# EAGLE library part ARDUNIO-NANO-BRD (library custom_components)
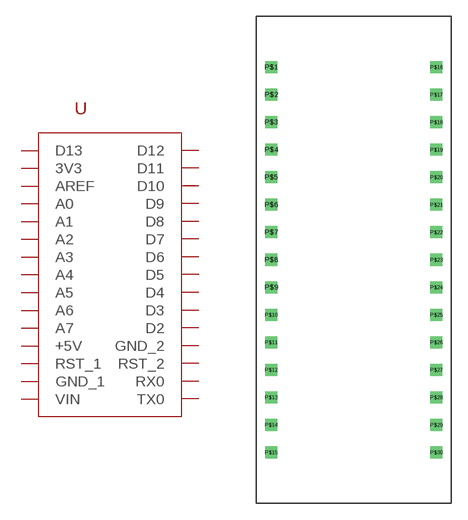
[diagram p2: symbol with the pads of ARDUINO-NANO-FOOT; footprint ARDUINO-NANO-FOOT]

Designator prefix -

## ARDUNIO-NANO-BRD  [ARDUINO-NANO-FOOT]
P$1  D13
P$2  3V3  pwr
P$3  AREF  pwr
P$4  A0
P$5  A1
P$6  A2
P$7  A3
P$8  A4
P$9  A5
P$10  A6
P$11  A7
P$12  +5V  pwr
P$13  RST_1  in
P$14  GND_1  pwr
P$15  VIN  pwr
P$16  D12
P$17  D11
P$18  D10
P$19  D9
P$20  D8
P$21  D7
P$22  D6
P$23  D5
P$24  D4
P$25  D3
P$26  D2
P$27  GND_2  pwr
P$28  RST_2  in
P$29  RX0  in
P$30  TX0  out

## Footprint ARDUINO-NANO-FOOT (pad centres in mm)
drill 0.6 square: P$1 -7.62,17.78; P$2 -7.62,15.24; P$3 -7.62,12.7; P$4 -7.62,10.16; P$5 -7.62,7.62; P$6 -7.62,5.08; P$7 -7.62,2.54; P$8 -7.62,0; P$9 -7.62,-2.54; P$10 -7.62,-5.08; P$11 -7.62,-7.62; P$12 -7.62,-10.16; P$13 -7.62,-12.7; P$14 -7.62,-15.24; P$15 -7.62,-17.78; P$16 7.62,17.78; P$17 7.62,15.24; P$18 7.62,12.7; P$19 7.62,10.16; P$20 7.62,7.62; P$21 7.62,5.08; P$22 7.62,2.54; P$23 7.62,0; P$24 7.62,-2.54; P$25 7.62,-5.08; P$26 7.62,-7.62; P$27 7.62,-10.16; P$28 7.62,-12.7; P$29 7.62,-15.24; P$30 7.62,-17.78